# EAGLE library part LM48100Q (library packages(ti))
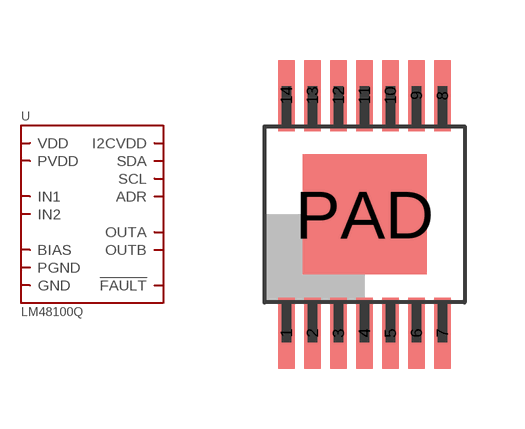
[diagram p5: symbol with the pads of TSOP.14.4X5MM; footprint TSOP.14.4X5MM]

Designator prefix U

## LM48100Q  [TSOP.14.4X5MM]
1  !FAULT!
2  SCL
3  SDA
4  I2CVDD
5  GND
6  ADR
7  OUTA
8  PGND
9  OUTB
10  PVDD
11  IN2
12  IN1
13  BIAS
14  VDD
PAD  GND

## Footprint TSOP.14.4X5MM (pad centres in mm)
smd 0.42 x 1.78: 1 -1.95,-2.97; 2 -1.3,-2.97; 3 -0.65,-2.97; 4 0,-2.97; 5 0.65,-2.97; 6 1.3,-2.97; 7 1.95,-2.97; 8 1.95,2.97; 9 1.3,2.97; 10 0.65,2.97; 11 0,2.97; 12 -0.65,2.97; 13 -1.3,2.97; 14 -1.95,2.97
smd 3.1 x 3: PAD 0,0